# EAGLE library part LM3578 (library !national)
LM3578 SEPIC Regulator National Semiconductor used in many applications but originally made for a +5V regulator for portable devices based on the Nuts and Volts article from April 1999
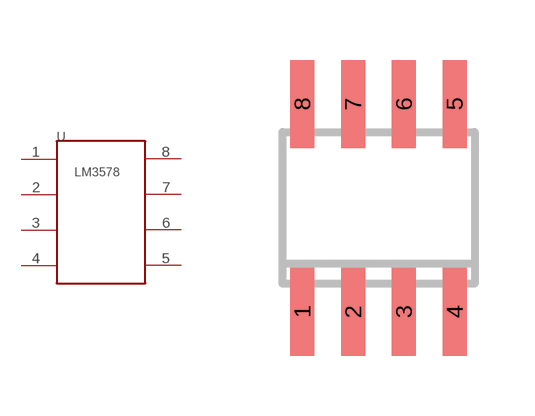
[diagram p0: symbol with the pads of SOIC_8_NARROW; footprint SOIC_8_NARROW]

Designator prefix U

## LM3578-SOIC  [SOIC_8_NARROW]
1  P$1  in
2  P$2  in
3  P$3  pas
4  P$4  pwr
5  P$5  out
6  P$6  out
7  P$7
8  P$8  pwr

## Footprint SOIC_8_NARROW (pad centres in mm)
small outline package (soic) 8 Pin Narrow
smd 0.6 x 2.2: 1 -1.905,-2.6; 2 -0.635,-2.6; 3 0.635,-2.6; 4 1.905,-2.6; 5 1.905,2.6; 6 0.635,2.6; 7 -0.635,2.6; 8 -1.905,2.6